# Altium footprint library thesis_footprint_lib.PcbLib: 64 footprints (part 1 of 4)
Each footprint in its own frame and in the unit in brackets; x right, y up, seen from the top. Pads: shape width x height; smd on the part's side, far side on the other; paste and mask are expansions set on the pad; w line width, h text height; cw(c..) or ccw(c..) is an arc to the next point about the centre after c.
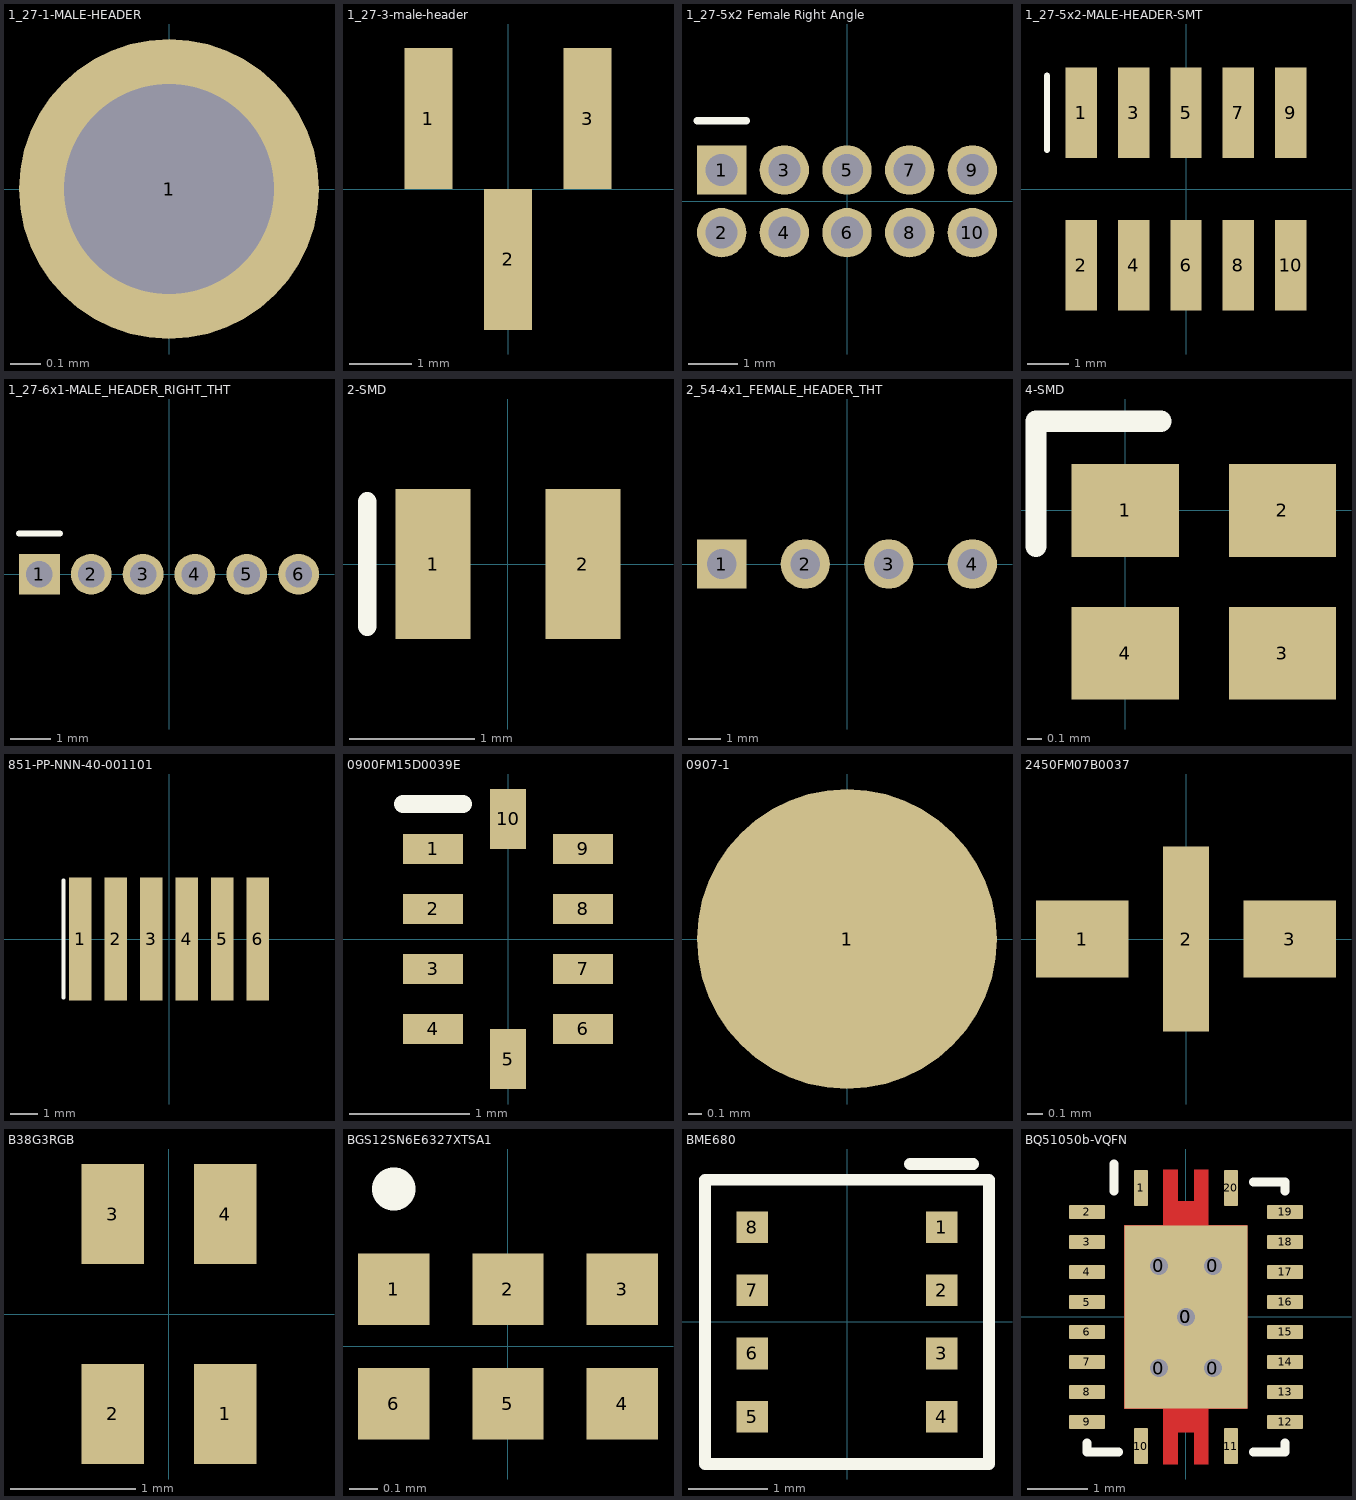
[diagram p0: the footprints below, top view; thin cyan lines are the x and y axes]

## 1_27-1-MALE-HEADER [mm] "1.27mm pitch 1pin male header"
pads (1):
  round 1 hole 0.7 unplated mask+0: 1(0,0)
3D body: height 4, standoff -2.3, extent -0.2,-0.2 0.2,0.2
3D body: height 1, standoff 0, extent -0.635,-1.07 0.635,1.07

## 1_27-3-male-header [mm] "1.27mm 3 pin male header"
pads (3):
  rect 0.76x2.25 smd: 1(-1.27,1.125) 2(0,-1.125) 3(1.27,1.125)
3D body: height 5.1, standoff 0, extent -1.47,-0.2 -1.07,0.2
3D body: height 5.1, standoff 0, extent 1.07,-0.2 1.47,0.2
3D body: height 5.1, standoff 0, extent -0.2,-0.2 0.2,0.2
3D body: height 2, standoff 1.1, extent -1.91,-1.07 1.91,1.07
3D body: height 0.4, standoff 0, extent -0.2,-1.75 0.2,0
3D body: height 0.4, standoff 0, extent 1.07,0 1.47,1.75
3D body: height 0.4, standoff 0, extent -1.47,0 -1.07,1.75

## 1_27-5x2 Female Right Angle [mm]
pads (10):
  rect 1x1 hole 0.65 unplated mask+0.05: 1(-2.54,0.635)
  round 1 hole 0.65 unplated mask+0.05: 2(-2.54,-0.635) 3(-1.27,0.635) 4(-1.27,-0.635) 5(0,0.635) 6(0,-0.635) 7(1.27,0.635) 8(1.27,-0.635) 9(2.54,0.635) 10(2.54,-0.635)
Top Overlay:
  lines w0.15: -3.04,1.635 -2.04,1.635

## 1_27-5x2-MALE-HEADER-SMT [mm] "1.27mm pitch 5x2 row SMD male header"
pads (10):
  rect 0.76x2.2 smd mask+0: 1(-2.54,1.85) 2(-2.54,-1.85) 3(-1.27,1.85) 4(-1.27,-1.85) 5(0,1.85) 6(0,-1.85) 7(1.27,1.85) 8(1.27,-1.85) 9(2.54,1.85) 10(2.54,-1.85)
Top Overlay:
  lines w0.15: -3.37,0.95 -3.37,2.75
3D body: height 0.4, standoff 0, extent 2.34,-2.55 2.74,-0.435
3D body: height 0.4, standoff 0, extent 1.07,-2.55 1.47,-0.435
3D body: height 0.4, standoff 0, extent -0.2,-2.55 0.2,-0.435
3D body: height 0.4, standoff 0, extent -1.47,-2.55 -1.07,-0.435
3D body: height 0.4, standoff 0, extent -2.74,-2.55 -2.34,-0.435
3D body: height 0.4, standoff 0, extent -2.74,0.435 -2.34,2.55
3D body: height 0.4, standoff 0, extent -1.47,0.435 -1.07,2.55
3D body: height 0.4, standoff 0, extent 2.34,0.435 2.74,2.55
3D body: height 0.4, standoff 0, extent 1.07,0.435 1.47,2.55
3D body: height 0.4, standoff 0, extent -0.2,0.435 0.2,2.55
3D body: height 5.1, standoff 0, extent 2.34,-0.835 2.74,-0.435
3D body: height 5.1, standoff 0, extent 1.07,-0.835 1.47,-0.435
3D body: height 5.1, standoff 0, extent -0.2,-0.835 0.2,-0.435
3D body: height 5.1, standoff 0, extent -1.47,-0.835 -1.07,-0.435
3D body: height 5.1, standoff 0, extent -2.74,-0.835 -2.34,-0.435
3D body: height 5.1, standoff 0, extent -2.74,0.435 -2.34,0.835
3D body: height 5.1, standoff 0, extent -1.47,0.435 -1.07,0.835
3D body: height 5.1, standoff 0, extent 2.34,0.435 2.74,0.835
3D body: height 5.1, standoff 0, extent 1.07,0.435 1.47,0.835
3D body: height 5.1, standoff 0, extent -0.2,0.435 0.2,0.835
3D body: height 2.1, standoff 1.1, extent -3.175,-1.7 3.175,1.7

## 1_27-6x1-MALE_HEADER_RIGHT_THT [mm]
pads (6):
  rect 1x1 hole 0.65 unplated mask+0.05: 1(-3.175,0)
  round 1 hole 0.65 unplated mask+0.05: 2(-1.905,0) 3(-0.635,0) 4(0.635,0) 5(1.905,0) 6(3.175,0)
Top Overlay:
  lines w0.15: -3.675,1 -2.675,1

## 2-SMD [mm]
pads (2):
  rect 0.6x1.2 smd mask+0.05: 1(-0.6,0) 2(0.6,0)
Top Overlay:
  lines w0.15: -1.125,-0.5 -1.125,0.5
3D body: height 0.5, standoff 0, extent -0.8,-0.5 0.8,0.5

## 2_54-4x1_FEMALE_HEADER_THT [mm]
pads (4):
  rect 1.5x1.5 hole 0.9 unplated mask+0.05: 1(-3.81,0)
  round 1.5 hole 0.9 unplated mask+0.05: 2(-1.27,0) 3(1.27,0) 4(3.81,0)

## 4-SMD [mm]
pads (4):
  rect 0.75x0.65 smd paste-0.037 mask+0.05: 1(0,0) 2(1.1,0) 3(1.1,-1) 4(0,-1)
Top Overlay:
  lines w0.15: -0.625,-0.25 -0.625,0.625 0.25,0.625
3D body: height 0.5, standoff 0, extent -0.45,-1.3 1.55,0.3

## 851-PP-NNN-40-001101 [mm]
pads (6):
  rect 0.8x4.4 smd mask+0.05: 1(-3.175,0) 2(-1.905,0) 3(-0.635,0) 4(0.635,0) 5(1.905,0) 6(3.175,0)
Top Overlay:
  lines w0.15: -3.775,-2.1 -3.775,2.1
3D body: height 2.2, standoff 0, extent -4,-6.6 4,2.5

## 0900FM15D0039E [mm] "Miniature impedance-matched filter for Semtech SX1261/SX1262"
height 0.8
pads (10):
  rect 0.5x0.25 smd paste-0.022 mask+0.05: 1(-0.625,0.75) 2(-0.625,0.25) 3(-0.625,-0.25) 4(-0.625,-0.75) 6(0.625,-0.75) 7(0.625,-0.25) 8(0.625,0.25) 9(0.625,0.75)
  rect 0.3x0.5 smd paste-0.025 mask+0.05: 5(0,-1) 10(0,1)
Top Overlay:
  lines w0.15: -0.875,1.125 -0.375,1.125
3D body: height 0.8, standoff 0, extent -0.625,-1 0.625,1

## 0907-1 [mm] "Pogo Pin"
height 7
pads (1):
  round 2.25 smd: 1(0,0)

## 2450FM07B0037 [mm] "nRF52 Bluetooth matching filter"
height 0.4
pads (3):
  rect 0.6x0.5 smd paste-0.029 mask+0.05: 1(-0.675,0) 3(0.675,0)
  rect 0.3x1.2 smd paste-0.045 mask+0.05: 2(0,0)
3D body: height 0.4, standoff 0, extent -0.5,-0.25 0.5,0.25

## B38G3RGB [mm] "RGB LED"
height 0.4
pads (4):
  rect 0.5x0.8 smd paste-0.016 mask+0.05: 1(0.45,-0.8) 2(-0.45,-0.8) 3(-0.45,0.8) 4(0.45,0.8)
3D body: height 0.14, standoff 0, extent -0.8,-0.8 0.8,0.8
3D body: height 0.14, standoff 0, extent -0.7,0.4 -0.2,0.8
3D body: height 0.14, standoff 0, extent 0.2,0.4 0.7,0.8
3D body: height 0.14, standoff 0, extent -0.7,-0.8 -0.2,-0.4
3D body: height 0.14, standoff 0, extent 0.2,-0.8 0.7,-0.4
3D body: height 0.4, standoff 0, extent -0.8,-0.55 0.8,0.55
3D body: height 0.2, standoff 0, extent -0.35,0.1 -0.2,0.25
3D body: height 0.2, standoff 0, extent 0.1,0.1 0.25,0.25
3D body: height 0.2, standoff 0, extent -0.5,-0.2 -0.35,-0.05

## BGS12SN6E6327XTSA1 [mm] "SPDT RF switch"
pads (6):
  rect 0.25x0.25 smd paste-0.024 mask+0.05: 1(-0.4,0.2) 2(0,0.2) 3(0.4,0.2) 4(0.4,-0.2) 5(0,-0.2) 6(-0.4,-0.2)
Top Overlay:
  circle w0.15: c-0.4,0.551 r0.001
3D body: height 0.38, standoff 0, extent -0.55,-0.35 0.55,0.35

## BME680 [mm]
pads (8):
  rect 0.4x0.4 smd paste-0.021 mask+0.1: 1(1.2,1.2) 2(1.2,0.4) 3(1.2,-0.4) 4(1.2,-1.2) 5(-1.2,-1.2) 6(-1.2,-0.4) 7(-1.2,0.4) 8(-1.2,1.2)
Top Overlay:
  lines w0.15: 0.8,2 1.6,2 ; -1.8,-1.8 1.8,-1.8 1.8,1.8 -1.8,1.8 -1.8,-1.8
3D body: height 1, standoff 0, extent -1.5,-1.5 1.5,1.5

## BQ51050b-VQFN [mm] "Wireless charging receiver and Li-Ion/Li-Poly battery charger"
height 1
pads (26):
  round 0.6 hole 0.3 paste-0.015 mask+0.05: 0(-0.45,-0.85) 0(-0.45,0.85) 0(0,0) 0(0.45,-0.85) 0(0.45,0.85)
  rect 2.05x3.05 smd paste-2539.97 mask+0: 0(0,0)
  rrect25% 0.24x0.6 smd paste-0.009 mask+0.05: 1(-0.75,2.15) 10(-0.75,-2.15) 11(0.75,-2.15) 20(0.75,2.15)
  rrect25% 0.6x0.24 smd paste-0.009 mask+0.05: 2(-1.65,1.75) 3(-1.65,1.25) 4(-1.65,0.75) 5(-1.65,0.25) 6(-1.65,-0.25) 7(-1.65,-0.75) 8(-1.65,-1.25) 9(-1.65,-1.75) 12(1.65,-1.75) 13(1.65,-1.25) 14(1.65,-0.75) 15(1.65,-0.25) 16(1.65,0.25) 17(1.65,0.75) 18(1.65,1.25) 19(1.65,1.75)
Top Layer:
  region: -0.375,2.45 -0.135,2.45 -0.135,1.925 0.135,1.925 0.135,2.45 0.375,2.45 0.375,1.525 1.025,1.525 1.025,-1.525 0.375,-1.525 0.375,-2.45 0.135,-2.45 0.135,-1.925 -0.135,-1.925 -0.135,-2.45 -0.375,-2.45 -0.375,-1.525 -1.025,-1.525 -1.025,1.525 -0.375,1.525
Top Overlay:
  lines w0.15: -1.65,-2.1 -1.65,-2.25 -1.125,-2.25 ; -1.2,2.1 -1.2,2.55 ; 1.125,-2.25 1.65,-2.25 1.65,-2.1 ; 1.125,2.25 1.65,2.25 1.65,2.1
Top Paste:
  region: -0.37,2.445 -0.14,2.445 -0.14,1.915 0.14,1.915 0.14,2.445 0.37,2.445 0.37,1.53 -0.37,1.53
  region: 0.37,-2.445 0.14,-2.445 0.14,-1.915 -0.14,-1.915 -0.14,-2.445 -0.37,-2.445 -0.37,-1.53 0.37,-1.53
  region: -0.88,1.38 -0.12,1.38 -0.12,0.12 -0.88,0.12
  region: 0.12,1.38 0.88,1.38 0.88,0.12 0.12,0.12
  region: 0.12,-0.12 0.88,-0.12 0.88,-1.38 0.12,-1.38
  region: -0.88,-0.12 -0.12,-0.12 -0.12,-1.38 -0.88,-1.38
3D body: height 1, standoff 0, extent -1.65,-2.25 1.65,2.25